# EAGLE library part TB005-762-06BE (library TB005-762-06BE)
2~24 Poles, Screw Type, Horizontal, 7.62 Pitch, 26~10 (AWG), Terminal Block Connector Source: Datasheet <https://www.sameskydevices.com/product/resource/supplyframepdf/tb005-762.pdf>
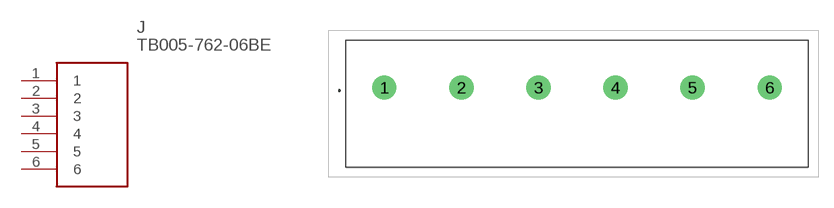
[diagram p0: symbol with the pads of TB00576206BE; footprint TB00576206BE]

Designator prefix J

## TB005-762-06BE (Description: 2~24 Poles, Screw Type, Horizontal, 7.62 Pitch, 26~10 (AWG), Terminal Block Connector; Height: 21.7mm; Manufacturer_Name: Same Sky; Manufacturer_Part_Number: TB005-762-06BE; Mouser_Part_Number: 490-TB005-762-06BE; Mouser_Price-Stock: https://www.mouser.co.uk/ProductDetail/Same-Sky/TB005-762-06BE?qs=vLWxofP3U2x7s1VWG66MIA%3D%3D)  [TB00576206BE]
1  1
2  2
3  3
4  4
5  5
6  6

## Footprint TB00576206BE (pad centres in mm)
TB005-762-06BE-3
drill 1.6 pad 2.4: 1 0,0; 2 7.62,0; 3 15.24,0; 4 22.86,0; 5 30.48,0; 6 38.1,0